# Altium schematic symbol library TrailGuard1.0.SCHLIB: 2 symbols
Pins are listed as number, name and electrical type; pins without a type are passive.

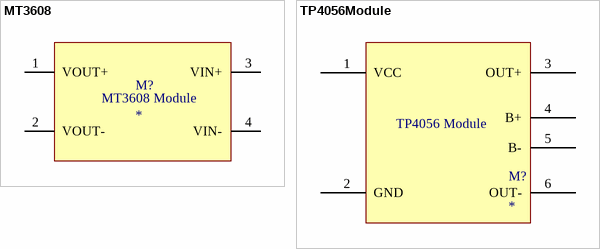
[diagram p0: symbols MT3608 to TP4056Module]

## MT3608
designator M?
MT3608 Step-Up Power Module
footprint MT3608 Module
pins: 1 VOUT+, 2 VOUT-, 3 VIN+, 4 VIN-
text: MT3608 Module

## TP4056Module
designator M?
Module for managing battery charging
footprint TP4056Module
pins: 1 VCC, 2 GND, 3 OUT+, 4 B+, 5 B-, 6 OUT-
text: TP4056 Module